# Altium integrated library Inductors.IntLib: 16 symbols
Pins are listed as number, name and electrical type; pins without a type are passive.

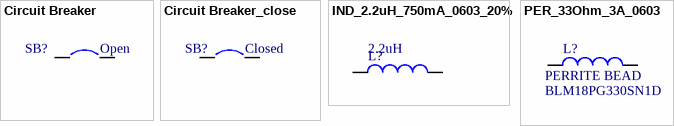
[diagram p0: symbols Circuit Breaker to PER_33Ohm_3A_0603]

## Circuit Breaker
designator SB?, comment Open
Circuit Breaker; Published: 24-Mar-1999; Revision: July-2002: Re-released for DXP Platform.; Publisher: Altium Limited
footprint SPST-2 (Circuit Breaker; 2 Leads)
footprint JP2_SMD
footprint SB_0603 (Footprint not found)
pins: 1, 2

## Circuit Breaker_close
designator SB?, comment Closed
Circuit Breaker; Published: 24-Mar-1999; Revision: July-2002: Re-released for DXP Platform.; Publisher: Altium Limited
footprint SPST-2 (Circuit Breaker; 2 Leads)
footprint JP2_SMD
footprint SB_0603 (Footprint not found)
pins: 1, 2

## IND_2.2uH_750mA_0603_20%
designator L?, comment 2.2uH
2.2uH 20% 750mA 0603; PartNumber: LQM18PZ2R2MCHD; Manufacturer: Murata; PackageReference: 0603; PackageDescription: 0603 (1608 metric); Mounting Technology: Surface Mount; Current: 750mA; Value: 2.2uH
simulation model INDUCTOR (Inductor)
signal-integrity model Inductor
footprint IND0603 (Chip Inductor, Body 1.55x0.85mm)
pins: 1, 2

## PER_33Ohm_3A_0603
designator L?, comment Type: PERRITE BEAD  PartNumber: BLM18PG330SN1D  (hidden comment: 33Ohm)
33Ohm 3A 0603 Perrite Bead; Manufacturer: Murata; PackageReference: 0603; PackageDescription: 0603 (1608 metric); Mounting Technology: Surface Mount; Current: 3A; Value: 33Ohm
simulation model INDUCTOR (Inductor)
signal-integrity model Inductor
footprint IND0603 (Chip Inductor, Body 1.55x0.85mm)
pins: 1, 2


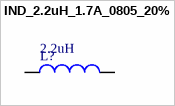
[diagram p1: symbol IND_2.2uH_1.7A_0805_20%]

## IND_2.2uH_1.7A_0805_20%
designator L?, comment 2.2uH
2.2uH 20% 1.7A 0805; PartNumber: LQM21PN2R2MGHL; Manufacturer: Murata; PackageReference: 0805; PackageDescription: 0805 (2012 metric); Mounting Technology: Surface Mount; Current: 1.7A; Value: 2.2uH
simulation model INDUCTOR (Inductor)
signal-integrity model Inductor
footprint IND0805 (Chip Resistor, Body 2.0x1.25mm)
pins: 1, 2


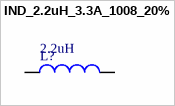
[diagram p2: symbol IND_2.2uH_3.3A_1008_20%]

## IND_2.2uH_3.3A_1008_20%
designator L?, comment 2.2uH
2.2uH 20% 3.3A 1008; PartNumber: DFE252012F-2R2M=P2; Manufacturer: Murata; PackageReference: 1008; PackageDescription: 1008 (2520 metric); Mounting Technology: Surface Mount; Current: 3.3A; Value: 2.2uH
simulation model INDUCTOR (Inductor)
signal-integrity model Inductor
footprint IND1008 (Chip Inductor Body 2.5x2.0mm)
pins: 1, 2


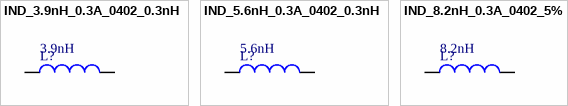
[diagram p3: symbols IND_3.9nH_0.3A_0402_0.3nH to IND_8.2nH_0.3A_0402_5%]

## IND_3.9nH_0.3A_0402_0.3nH
designator L?, comment 3.9nH
3.9nH +/-0.3nH 0.3A 0402; PartNumber: LQG15HS3N9S02D; Manufacturer: Murata; PackageReference: 0402; PackageDescription: 0402 (2012 metric); Mounting Technology: Surface Mount; Current: 0.3A; Value: 3.9nH
footprint IND0402 (Chip Inductor, 0402 package)
pins: 1, 2

## IND_5.6nH_0.3A_0402_0.3nH
designator L?, comment 5.6nH
5.6nH +/-0.3nH 0.3A 0402; PartNumber: LQG15HS5N6S02D; Manufacturer: Murata; PackageReference: 0402; PackageDescription: 0402 (2012 metric); Mounting Technology: Surface Mount; Current: 0.3A; Value: 5.6nH
footprint IND0402 (Chip Inductor, 0402 package)
pins: 1, 2

## IND_8.2nH_0.3A_0402_5%
designator L?, comment 8.2nH
8.2nH 5% 0.3A 0402; PartNumber: LQG15HS8N2J02D; Manufacturer: Murata; PackageReference: 0402; PackageDescription: 0402 (2012 metric); Mounting Technology: Surface Mount; Current: 0.3A; Value: 8.2nH
footprint IND0402 (Chip Inductor, 0402 package)
pins: 1, 2


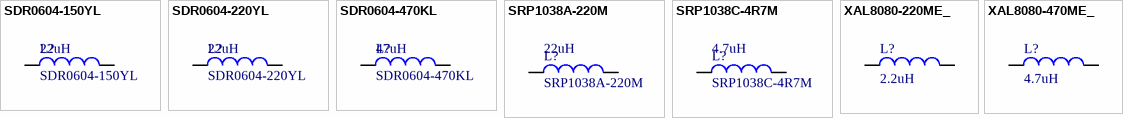
[diagram p4: symbols SDR0604-150YL to XAL8080-470ME_]

## SDR0604-150YL
designator L?  value 22uH
15uH 30% 1.3A 0604; Manufacturer: Bourns; PartNumber: SDR0604-150YL; PackageReference: SDR0604; Mounting Technology: Surface Mount; Current: 1.3A
simulation model INDUCTOR (Inductor)
signal-integrity model Inductor
footprint SDR0604
pins: 1, 2

## SDR0604-220YL
designator L?  value 22uH
22uH 30% 1.1A 0604; Manufacturer: Bourns; PartNumber: SDR0604-220YL; PackageReference: SDR0604; Mounting Technology: Surface Mount; Current: 1.1A
simulation model INDUCTOR (Inductor)
signal-integrity model Inductor
footprint SDR0604
pins: 1, 2

## SDR0604-470KL
designator L?  value 47uH
47uH 10% 0.72A 0604; Manufacturer: Bourns; PartNumber: SDR0604-470KL; PackageReference: SDR0604; Mounting Technology: Surface Mount; Current: 0.72A
simulation model INDUCTOR (Inductor)
signal-integrity model Inductor
footprint SDR0604
pins: 1, 2

## SRP1038A-220M
designator L?  value 22uH
22uH 20% 7A 1038; Manufacturer: Bourns; PartNumber: SRP1038A-220M; Mounting Technology: Surface Mount; PackageReference: SRP1038A; Current: 7A
simulation model INDUCTOR (Inductor)
signal-integrity model Inductor
footprint SRP1038A
pins: 1, 2

## SRP1038C-4R7M
designator L?  value 4.7uH
4.7uH 20% 13A 1038; Manufacturer: Bourns; PartNumber: SRP1038C-4R7M; Mounting Technology: Surface Mount; PackageReference: SRP1038C; Current: 13A
simulation model INDUCTOR (Inductor)
signal-integrity model Inductor
footprint SRP1038C
pins: 1, 2

## XAL8080-220ME_
designator L?  value 2.2uH
2.2uH 38A 4.08mOhms; PartNumber: XAL8080-270MED; Manufacturer: Coilcraft; Published: 8-Jun-2000; PackageReference: 0402-A; Publisher: Altium Limited; PackageDescription: Chip Inductor
simulation model INDUCTOR (Inductor)
signal-integrity model Inductor
footprint XAL8080
pins: 1, 2

## XAL8080-470ME_
designator L?  value 4.7uH
4.7uH 38A 4.08mOhms; PartNumber: XAL8080-470MED; Manufacturer: Coilcraft; Published: 8-Jun-2000; PackageReference: 0402-A; Publisher: Altium Limited; PackageDescription: Chip Inductor
simulation model INDUCTOR (Inductor)
signal-integrity model Inductor
footprint XAL8080
pins: 1, 2